# EAGLE library part DRV8837 (library magzor)
H-bridge DC motor driver
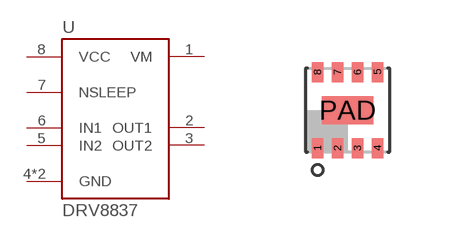
[diagram p15: symbol with the pads of WSON; footprint WSON]

Designator prefix U

## DRV8837  [WSON]
1  VM
2  OUT1
3  OUT2
4  GND
5  IN2
6  IN1
7  NSLEEP
8  VCC
PAD  GND

## Footprint WSON (pad centres in mm)
smd 0.28 x 0.5: 1 -0.75,-0.95; 2 -0.25,-0.95; 3 0.25,-0.95; 4 0.75,-0.95; 5 0.75,0.95; 6 0.25,0.95; 7 -0.25,0.95; 8 -0.75,0.95
smd 1.3 x 0.7: PAD 0,0